# Altium schematic symbol library CL10B681JB8NNNC.SchLib: 2 symbols
Pins are listed as number, name and electrical type; pins without a type are passive.

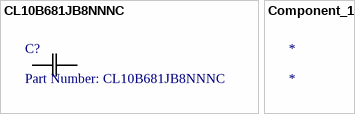
[diagram p0: symbols CL10B681JB8NNNC to Component_1]

## CL10B681JB8NNNC
designator C?, comment Part Number: CL10B681JB8NNNC
No Description Available; Vendor: Samsung; Built_By: EMA_Rocco; Type: DEV; Manufacturer_Part_Number: CL10B681JB8NNNC; Copyright: Copyright (C) 2018 Accelerated Designs. All rights reserved; RefDes: RefDes; Value: Value
footprint CAP_CL10
pins: 1, 2

## Component_1
designator *